# Altium schematic symbol library VEXP.Schlib: 1 symbol
Pins are listed as number, name and electrical type; pins without a type are passive.

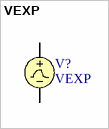
[diagram p0: symbol VEXP]

## VEXP
designator V?
Exponential Voltage Source
pins: 1, 2